# EAGLE library part L3G4200D (library 0SBLib)
MEMS motion sensor ultra-stable three-axis digital output gyroscope
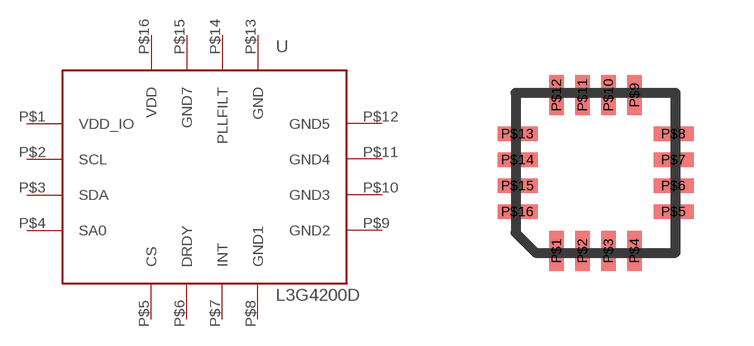
[diagram p29: symbol with the pads of LGA16L; footprint LGA16L]

Designator prefix -

## L3G4200D  [LGA16L]
P$1  VDD_IO
P$2  SCL
P$3  SDA
P$4  SA0
P$5  CS
P$6  DRDY
P$7  INT
P$8  GND1
P$9  GND2
P$10  GND3
P$11  GND4
P$12  GND5
P$13  GND
P$14  PLLFILT
P$15  GND7
P$16  VDD

## Footprint LGA16L (pad centres in mm)
smd 0.353 x 1: P$1 -0.975,-1.95; P$2 -0.325,-1.95; P$3 0.325,-1.95; P$4 0.975,-1.95; P$9 0.975,1.95; P$10 0.325,1.95; P$11 -0.325,1.95; P$12 -0.975,1.95
smd 1 x 0.353: P$5 1.95,-0.975; P$6 1.95,-0.325; P$7 1.95,0.325; P$8 1.95,0.975; P$13 -1.95,0.975; P$14 -1.95,0.325; P$15 -1.95,-0.325; P$16 -1.95,-0.975